# Altium integrated library Inductor-470.IntLib: 1 symbol
Pins are listed as number, name and electrical type; pins without a type are passive.

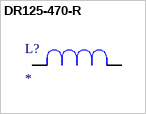
[diagram p0: symbol DR125-470-R]

## DR125-470-R
designator L?
47ÂµH Shielded Wirewound Inductor 2.71A 74mOhm Nonstandard; MF: Eaton; MP: DR125-470-R; Digi-Key_Part_Number: 513-1128-1-ND; SnapEDA_Link: https://www.snapeda.com/parts/DR125-470-R/Eaton/view-part/2729976/?ref=snap; Check_prices: https://www.snapeda.com/parts/DR125-470-R/Eaton/view-part/2729976/?ref=eda; Package: Nonstandard Eaton; Purchase-URL: https://pricing.snapeda.com/search/part/DR125-470-R/?ref=eda; Value: *
footprint INDM125125X600N
pins: 1, 2